# EAGLE library part 2X3 (library Ilya_Teach)
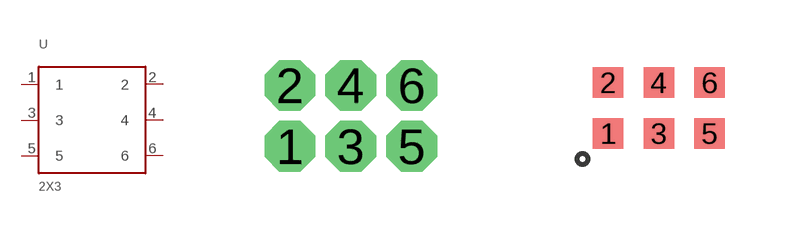
[diagram p0: symbol with the pads of 2X3; footprints 2X3, 2X3-SMD]

Designator prefix -

## 2X3A  [2X3]
1  1
2  2
3  3
4  4
5  5
6  6

## 2X3B  [2X3-SMD]
Pads as for 2X3

## 2X3C  [2X3_SHROUDED]
Pads as for 2X3

## 2X3D  [2X3-FCI_UNSHROUDED]
Pads as for 2X3

## 2X3E  [2X3-SMD_0.1IN_UNSHROUDED]
Pads as for 2X3

## Footprint 2X3 (pad centres in mm)
drill 0.762 octagon: 1 -1.524,-0.889; 2 -1.524,0.635; 3 0,-0.889; 4 0,0.635; 5 1.524,-0.889; 6 1.524,0.635

## Footprint 2X3-SMD (pad centres in mm)
smd 0.762 x 0.762: 1 -1.27,0; 2 -1.27,1.27; 3 0,0; 4 0,1.27; 5 1.27,0; 6 1.27,1.27

## Footprint 2X3_SHROUDED (pad centres in mm)
drill 1.016 octagon: 1 -2.54,-1.27; 2 -2.54,1.27; 3 0,-1.27; 4 0,1.27; 5 2.54,-1.27; 6 2.54,1.27

## Footprint 2X3-FCI_UNSHROUDED (pad centres in mm)
smd 0.76 x 2.4: 1 -1.27,-1.95; 2 -1.27,1.95; 3 0,-1.95; 4 0,1.95; 5 1.27,-1.95; 6 1.27,1.95

## Footprint 2X3-SMD_0.1IN_UNSHROUDED (pad centres in mm)
smd 1.27 x 3.683: 1 -2.54,-2.223; 2 -2.54,2.223; 3 0,-2.223; 4 0,2.223; 5 2.54,-2.223; 6 2.54,2.223